# Altium footprint library D2PAK-4_0.PcbLib: 1 footprints
Each footprint in its own frame and in the unit in brackets; x right, y up, seen from the top. Pads: shape width x height; smd on the part's side, far side on the other; paste and mask are expansions set on the pad; w line width, h text height; cw(c..) or ccw(c..) is an arc to the next point about the centre after c.
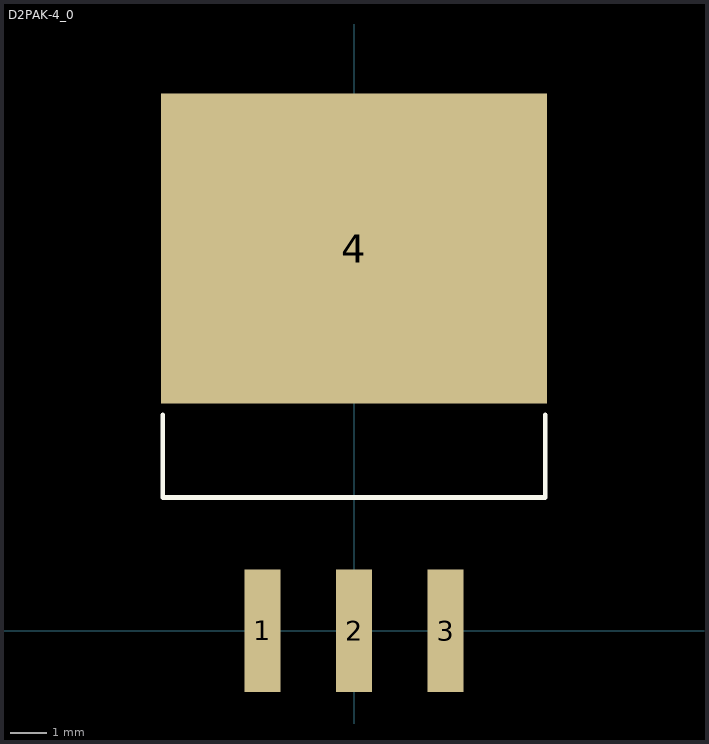
[diagram p0: the footprint, top view; thin cyan lines are the x and y axes]

## D2PAK-4_0 [mm]
pads (4):
  rect 1x3.4 smd: 1(-2.54,0) 2(0,0) 3(2.54,0)
  rect 10.7x8.6 smd: 4(0,10.6)
Top Overlay:
  lines w0.127: -5.3,6 -5.3,3.7 5.3,3.7 5.3,6
3D body: height 4.83, standoff 0, extent -5,4 5,13.5